# Altium footprint library QFP.PcbLib: 102 footprints (part 4 of 7)
Each footprint in its own frame and in the unit in brackets; x right, y up, seen from the top. Pads: shape width x height; smd on the part's side, far side on the other; paste and mask are expansions set on the pad; w line width, h text height; cw(c..) or ccw(c..) is an arc to the next point about the centre after c.
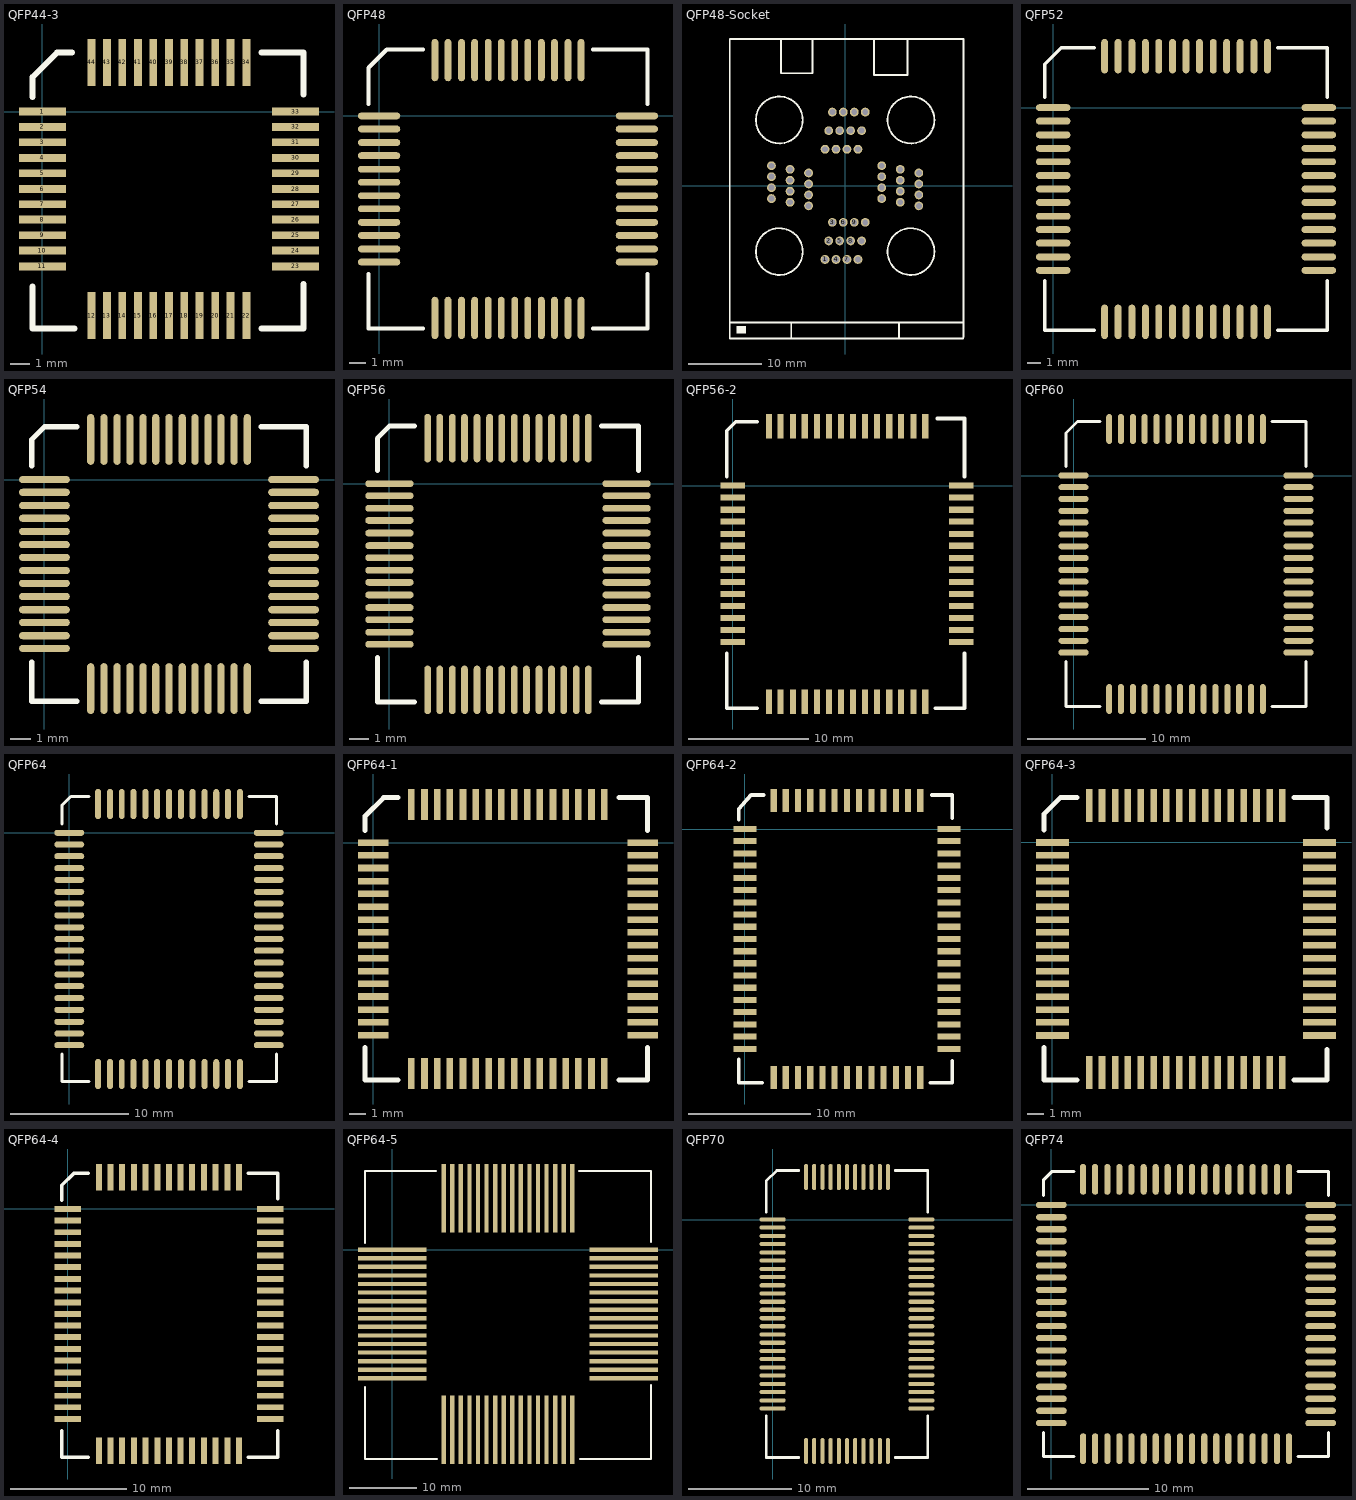
[diagram p3: the footprints below, top view; thin cyan lines are the x and y axes]

## QFP44-3 [mil]
pads (44):
  rect 95x16 smd: 1(0,0) 2(0,-31) 3(0,-62) 4(0,-94) 5(0,-125) 6(0,-157) 7(0,-188) 8(0,-219) 9(0,-251) 10(0,-282) 11(0,-314) 23(514,-314) 24(514,-282) 25(514,-251) 26(514,-219) 27(514,-188) 28(514,-157) 29(514,-125) 30(514,-94) 31(514,-62) 32(514,-31) 33(514,0)
  rect 16x95 smd: 12(100,-414) 13(131,-414) 14(162,-414) 15(194,-414) 16(225,-414) 17(257,-414) 18(288,-414) 19(319,-414) 20(351,-414) 21(382,-414) 22(414,-414) 34(414,100) 35(382,100) 36(351,100) 37(319,100) 38(288,100) 39(257,100) 40(225,100) 41(194,100) 42(162,100) 43(131,100) 44(100,100)
Top Overlay:
  lines w12: -20,-355 -20,-440 65,-440 ; -20,30 -20,70 30,120 60,120 ; 445,-440 530,-440 530,-350 ; 445,120 530,120 530,35

## QFP48 [mil]
pads (48):
  oval 100x16 smd: 1(0,0) 2(0,-31) 3(0,-63) 4(0,-94) 5(0,-126) 6(0,-157) 7(0,-189) 8(0,-220) 9(0,-252) 10(0,-283) 11(0,-315) 12(0,-346) 25(610,-346) 26(610,-315) 27(610,-283) 28(610,-252) 29(610,-220) 30(610,-189) 31(610,-157) 32(610,-126) 33(610,-94) 34(610,-63) 35(610,-31) 36(610,0)
  oval 16x100 smd: 13(132,-478) 14(163,-478) 15(195,-478) 16(226,-478) 17(258,-478) 18(289,-478) 19(321,-478) 20(352,-478) 21(384,-478) 22(415,-478) 23(447,-478) 24(478,-478) 37(478,132) 38(447,132) 39(415,132) 40(384,132) 41(352,132) 42(321,132) 43(289,132) 44(258,132) 45(226,132) 46(195,132) 47(163,132) 48(132,132)
Top Overlay:
  lines w10: -25,-374 -25,-503 104,-503 ; -25,28 -25,114 18,157 104,157 ; 506,-503 635,-503 635,-374 ; 506,157 635,157 635,28

## QFP48-Socket [mm]
pads (48):
  round 1.2 hole 0.8: 1(-2.75,-10.08) 2(-2.25,-7.54) 3(-1.75,-5) 4(-1.25,-10.08) 5(-0.75,-7.54) 6(-0.25,-5) 7(0.25,-10.08) 8(0.75,-7.54) 9(1.25,-5) 10(1.75,-10.08) 11(2.25,-7.54) 12(2.75,-5) 13(10.08,-2.75) 14(7.54,-2.25) 15(5,-1.75) 16(10.08,-1.25) 17(7.54,-0.75) 18(5,-0.25) 19(10.08,0.25) 20(7.54,0.75) 21(5,1.25) 22(10.08,1.75) 23(7.54,2.25) 24(5,2.75) 25(2.75,10.08) 26(2.25,7.54) 27(1.75,5) 28(1.25,10.08) 29(0.75,7.54) 30(0.25,5) 31(-0.25,10.08) 32(-0.75,7.54) 33(-1.25,5) 34(-1.75,10.08) 35(-2.25,7.54) 36(-2.75,5) 37(-10.08,2.75) 38(-7.54,2.25) 39(-5,1.75) 40(-10.08,1.25) 41(-7.54,0.75) 42(-5,0.25) 43(-10.08,-0.25) 44(-7.54,-0.75) 45(-5,-1.25) 46(-10.08,-1.75) 47(-7.54,-2.25) 48(-5,-2.75)
Top Overlay:
  circle w0.254: c9,9 r3.2
  circle w0.254: c9,-9 r3.2
  circle w0.254: c-9,-9 r3.2
  circle w0.254: c-9,9 r3.2
  rectangle: -14.859,-20.193 -13.589,-19.177
  lines w0.254: -15.775,20.075 -15.775,-20.875 16.125,-20.875 ; -15.679,-18.7 -6.65,-18.7 6.381,-18.7 16.169,-18.7 ; -15.675,20.075 16.225,20.075 ; -8.763,19.925 -8.763,15.4 -4.445,15.4 -4.445,20.075 ; -7.375,-20.725 -7.375,-18.7 ; 3.937,20 3.937,15.15 8.509,15.15 8.509,20.052 ; 7.366,-20.75 7.366,-18.669 ; 16.2,-20.725 16.2,20.075
Bottom Overlay:
  lines w0.254: -15.875,-20.955 -15.875,19.939 -15.748,20.066 16.383,20.066 16.383,-20.955 -15.621,-20.955

## QFP52 [mil]
pads (52):
  oval 100x20 smd: 1(0,0) 2(0,-39) 3(0,-79) 4(0,-118) 5(0,-157) 6(0,-197) 7(0,-236) 8(0,-275) 9(0,-315) 10(0,-354) 11(0,-393) 12(0,-433) 13(0,-472) 27(770,-472) 28(770,-433) 29(770,-393) 30(770,-354) 31(770,-315) 32(770,-275) 33(770,-236) 34(770,-197) 35(770,-157) 36(770,-118) 37(770,-79) 38(770,-39) 39(770,0)
  oval 20x100 smd: 14(149,-621) 15(188,-621) 16(228,-621) 17(267,-621) 18(306,-621) 19(346,-621) 20(385,-621) 21(424,-621) 22(464,-621) 23(503,-621) 24(542,-621) 25(582,-621) 26(621,-621) 40(621,149) 41(582,149) 42(542,149) 43(503,149) 44(464,149) 45(424,149) 46(385,149) 47(346,149) 48(306,149) 49(267,149) 50(228,149) 51(188,149) 52(149,149)
Top Overlay:
  lines w10: -25,-502 -25,-646 119,-646 ; -25,30 -25,126 23,174 119,174 ; 651,-646 795,-646 795,-502 ; 651,174 795,174 795,30

## QFP54 [mil]
pads (54):
  oval 100x14 smd: 1(0,0) 2(0,-25) 3(0,-51) 4(0,-76) 5(0,-102) 6(0,-128) 7(0,-153) 8(0,-179) 9(0,-204) 10(0,-230) 11(0,-256) 12(0,-281) 13(0,-307) 14(0,-332) 28(490,-332) 29(490,-307) 30(490,-281) 31(490,-256) 32(490,-230) 33(490,-204) 34(490,-179) 35(490,-153) 36(490,-128) 37(490,-102) 38(490,-76) 39(490,-51) 40(490,-25) 41(490,0)
  oval 14x100 smd: 15(91,-411) 16(117,-411) 17(143,-411) 18(168,-411) 19(194,-411) 20(219,-411) 21(245,-411) 22(271,-411) 23(296,-411) 24(322,-411) 25(347,-411) 26(373,-411) 27(399,-411) 42(399,79) 43(373,79) 44(347,79) 45(322,79) 46(296,79) 47(271,79) 48(245,79) 49(219,79) 50(194,79) 51(168,79) 52(143,79) 53(117,79) 54(91,79)
Top Overlay:
  lines w10: -25,-359 -25,-436 64,-436 ; -25,27 -25,79 0,104 64,104 ; 426,-436 515,-436 515,-359 ; 426,104 515,104 515,27

## QFP56 [mil]
pads (56):
  oval 100x14 smd: 1(0,0) 2(0,-25) 3(0,-51) 4(0,-76) 5(0,-102) 6(0,-128) 7(0,-153) 8(0,-179) 9(0,-204) 10(0,-230) 11(0,-256) 12(0,-281) 13(0,-307) 14(0,-332) 29(490,-332) 30(490,-307) 31(490,-281) 32(490,-256) 33(490,-230) 34(490,-204) 35(490,-179) 36(490,-153) 37(490,-128) 38(490,-102) 39(490,-76) 40(490,-51) 41(490,-25) 42(490,0)
  oval 14x100 smd: 15(79,-426) 16(104,-426) 17(130,-426) 18(155,-426) 19(181,-426) 20(207,-426) 21(232,-426) 22(258,-426) 23(283,-426) 24(309,-426) 25(335,-426) 26(360,-426) 27(386,-426) 28(411,-426) 43(411,94) 44(386,94) 45(360,94) 46(335,94) 47(309,94) 48(283,94) 49(258,94) 50(232,94) 51(207,94) 52(181,94) 53(155,94) 54(130,94) 55(104,94) 56(79,94)
Top Overlay:
  lines w10: -25,-359 -25,-451 52,-451 ; -25,27 -25,94 0,119 52,119 ; 438,-451 515,-451 515,-359 ; 438,119 515,119 515,27

## QFP56-2 [mil]
pads (56):
  rect 80x20 smd: 1(0,0) 2(0,-39) 3(0,-79) 4(0,-118) 5(0,-158) 6(0,-197) 7(0,-237) 8(0,-276) 9(0,-316) 10(0,-355) 11(0,-395) 12(0,-434) 13(0,-474) 14(0,-513) 29(749,-513) 30(749,-474) 31(749,-434) 32(749,-395) 33(749,-355) 34(749,-316) 35(749,-276) 36(749,-237) 37(749,-197) 38(749,-158) 39(749,-118) 40(749,-79) 41(749,-39) 42(749,0)
  rect 20x80 smd: 15(118,-709) 16(157,-709) 17(197,-709) 18(236,-709) 19(276,-709) 20(315,-709) 21(355,-709) 22(394,-709) 23(434,-709) 24(473,-709) 25(513,-709) 26(552,-709) 27(592,-709) 28(631,-709) 43(631,195) 44(592,195) 45(552,195) 46(513,195) 47(473,195) 48(434,195) 49(394,195) 50(355,195) 51(315,195) 52(276,195) 53(236,195) 54(197,195) 55(157,195) 56(118,195)
Top Overlay:
  lines w12: -20,-550 -20,-730 80,-730 ; -20,30 -20,180 10,210 80,210 ; 665,-730 760,-730 760,-550 ; 670,220 760,220 760,30

## QFP60 [mil]
pads (60):
  oval 100x20 smd: 1(0,0) 2(0,-39) 3(0,-78) 4(0,-118) 5(0,-157) 6(0,-197) 7(0,-236) 8(0,-275) 9(0,-315) 10(0,-354) 11(0,-393) 12(0,-433) 13(0,-472) 14(0,-512) 15(0,-551) 16(0,-590) 31(750,-590) 32(750,-551) 33(750,-512) 34(750,-472) 35(750,-433) 36(750,-393) 37(750,-354) 38(750,-315) 39(750,-275) 40(750,-236) 41(750,-197) 42(750,-157) 43(750,-118) 44(750,-78) 45(750,-39) 46(750,0)
  oval 20x100 smd: 17(119,-745) 18(158,-745) 19(198,-745) 20(237,-745) 21(277,-745) 22(316,-745) 23(355,-745) 24(395,-745) 25(434,-745) 26(473,-745) 27(513,-745) 28(552,-745) 29(592,-745) 30(631,-745) 47(631,155) 48(592,155) 49(552,155) 50(513,155) 51(473,155) 52(434,155) 53(395,155) 54(355,155) 55(316,155) 56(277,155) 57(237,155) 58(198,155) 59(158,155) 60(119,155)
Top Overlay:
  lines w10: -25,-620 -25,-770 89,-770 ; -25,30 -25,142 13,180 89,180 ; 661,-770 775,-770 775,-620 ; 661,180 775,180 775,30

## QFP64 [mil]
pads (64):
  oval 100x20 smd: 1(0,0) 2(0,-39) 3(0,-78) 4(0,-118) 5(0,-157) 6(0,-197) 7(0,-236) 8(0,-275) 9(0,-315) 10(0,-354) 11(0,-393) 12(0,-433) 13(0,-472) 14(0,-511) 15(0,-551) 16(0,-590) 17(0,-630) 18(0,-669) 19(0,-708) 33(665,-708) 34(665,-669) 35(665,-630) 36(665,-590) 37(665,-551) 38(665,-511) 39(665,-472) 40(665,-433) 41(665,-393) 42(665,-354) 43(665,-315) 44(665,-275) 45(665,-236) 46(665,-197) 47(665,-157) 48(665,-118) 49(665,-78) 50(665,-39) 51(665,0)
  oval 20x100 smd: 20(96,-804) 21(136,-804) 22(175,-804) 23(214,-804) 24(254,-804) 25(293,-804) 26(333,-804) 27(372,-804) 28(411,-804) 29(451,-804) 30(490,-804) 31(529,-804) 32(569,-804) 52(569,96) 53(529,96) 54(490,96) 55(451,96) 56(411,96) 57(372,96) 58(333,96) 59(293,96) 60(254,96) 61(214,96) 62(175,96) 63(136,96) 64(96,96)
Top Overlay:
  lines w10: -25,-738 -25,-829 66,-829 ; -25,30 -25,91 5,121 66,121 ; 599,-829 690,-829 690,-738 ; 599,121 690,121 690,30

## QFP64-1 [mil]
pads (64):
  rect 75x16 smd: 1(0,0) 2(0,-31) 3(0,-62) 4(0,-94) 5(0,-125) 6(0,-157) 7(0,-188) 8(0,-219) 9(0,-251) 10(0,-282) 11(0,-314) 12(0,-345) 13(0,-376) 14(0,-408) 15(0,-439) 16(0,-471) 33(658,-471) 34(658,-439) 35(658,-408) 36(658,-376) 37(658,-345) 38(658,-314) 39(658,-282) 40(658,-251) 41(658,-219) 42(658,-188) 43(658,-157) 44(658,-125) 45(658,-94) 46(658,-62) 47(658,-31) 48(658,0)
  rect 16x75 smd: 17(93,-564) 18(125,-564) 19(156,-564) 20(187,-564) 21(219,-564) 22(250,-564) 23(282,-564) 24(313,-564) 25(344,-564) 26(376,-564) 27(407,-564) 28(439,-564) 29(470,-564) 30(501,-564) 31(533,-564) 32(564,-564) 49(564,93) 50(533,93) 51(501,93) 52(470,93) 53(439,93) 54(407,93) 55(376,93) 56(344,93) 57(313,93) 58(282,93) 59(250,93) 60(219,93) 61(187,93) 62(156,93) 63(125,93) 64(93,93)
Top Overlay:
  lines w12: -20,-500 -20,-580 60,-580 ; -20,30 -20,65 25,110 60,110 ; 600,-580 670,-580 670,-500 ; 600,110 670,110 670,30

## QFP64-2 [mil]
pads (64):
  rect 75x20 smd: 1(0,0) 2(0,-39) 3(0,-79) 4(0,-118) 5(0,-158) 6(0,-197) 7(0,-237) 8(0,-276) 9(0,-316) 10(0,-355) 11(0,-395) 12(0,-434) 13(0,-474) 14(0,-513) 15(0,-553) 16(0,-592) 17(0,-632) 18(0,-671) 19(0,-711) 33(660,-711) 34(660,-671) 35(660,-632) 36(660,-592) 37(660,-553) 38(660,-513) 39(660,-474) 40(660,-434) 41(660,-395) 42(660,-355) 43(660,-316) 44(660,-276) 45(660,-237) 46(660,-197) 47(660,-158) 48(660,-118) 49(660,-79) 50(660,-39) 51(660,0)
  rect 20x75 smd: 20(93,-803) 21(132,-803) 22(172,-803) 23(211,-803) 24(251,-803) 25(290,-803) 26(330,-803) 27(369,-803) 28(409,-803) 29(448,-803) 30(488,-803) 31(527,-803) 32(567,-803) 52(567,92) 53(527,92) 54(488,92) 55(448,92) 56(409,92) 57(369,92) 58(330,92) 59(290,92) 60(251,92) 61(211,92) 62(172,92) 63(132,92) 64(93,92)
Top Overlay:
  lines w12: -20,-745 -20,-820 55,-820 ; -20,30 -20,65 20,110 60,110 ; 600,-820 670,-820 670,-750 ; 605,110 670,110 670,35

## QFP64-3 [mil]
pads (64):
  rect 80x16 smd: 1(0,0) 2(0,-31) 3(0,-62) 4(0,-94) 5(0,-125) 6(0,-157) 7(0,-188) 8(0,-219) 9(0,-251) 10(0,-282) 11(0,-314) 12(0,-345) 13(0,-376) 14(0,-408) 15(0,-439) 16(0,-471) 33(652,-471) 34(652,-439) 35(652,-408) 36(652,-376) 37(652,-345) 38(652,-314) 39(652,-282) 40(652,-251) 41(652,-219) 42(652,-188) 43(652,-157) 44(652,-125) 45(652,-94) 46(652,-62) 47(652,-31) 48(652,0)
  rect 16x80 smd: 17(90,-561) 18(121,-561) 19(153,-561) 20(184,-561) 21(216,-561) 22(247,-561) 23(278,-561) 24(310,-561) 25(341,-561) 26(373,-561) 27(404,-561) 28(435,-561) 29(467,-561) 30(498,-561) 31(530,-561) 32(561,-561) 49(561,90) 50(530,90) 51(498,90) 52(467,90) 53(435,90) 54(404,90) 55(373,90) 56(341,90) 57(310,90) 58(278,90) 59(247,90) 60(216,90) 61(184,90) 62(153,90) 63(121,90) 64(90,90)
Top Overlay:
  lines w12: -20,-500 -20,-580 60,-580 ; -20,30 -20,70 20,110 60,110 ; 590,-580 670,-580 670,-505 ; 590,110 670,110 670,35

## QFP64-4 [mil]
pads (64):
  rect 90x20 smd: 1(0,0) 2(0,-39) 3(0,-79) 4(0,-118) 5(0,-158) 6(0,-197) 7(0,-237) 8(0,-276) 9(0,-316) 10(0,-355) 11(0,-395) 12(0,-434) 13(0,-474) 14(0,-513) 15(0,-553) 16(0,-592) 17(0,-632) 18(0,-671) 19(0,-711) 33(685,-711) 34(685,-671) 35(685,-632) 36(685,-592) 37(685,-553) 38(685,-513) 39(685,-474) 40(685,-434) 41(685,-395) 42(685,-355) 43(685,-316) 44(685,-276) 45(685,-237) 46(685,-197) 47(685,-158) 48(685,-118) 49(685,-79) 50(685,-39) 51(685,0)
  rect 20x90 smd: 20(105,-818) 21(145,-818) 22(184,-818) 23(224,-818) 24(263,-818) 25(303,-818) 26(342,-818) 27(382,-818) 28(421,-818) 29(461,-818) 30(500,-818) 31(540,-818) 32(579,-818) 52(579,107) 53(540,107) 54(500,107) 55(461,107) 56(421,107) 57(382,107) 58(342,107) 59(303,107) 60(263,107) 61(224,107) 62(184,107) 63(145,107) 64(105,107)
Top Overlay:
  lines w12: -20,-750 -20,-840 70,-840 ; -20,30 -20,80 20,120 70,120 ; 610,-840 710,-840 710,-750 ; 610,120 710,120 710,35

## QFP64-5 [mm]
pads (64):
  rect 10.16x0.635 smd: 1(0,0) 2(0,-1.27) 3(0,-2.54) 4(0,-3.81) 5(0,-5.08) 6(0,-6.35) 7(0,-7.62) 8(0,-8.89) 9(0,-10.16) 10(0,-11.43) 11(0,-12.7) 12(0,-13.97) 13(0,-15.24) 14(0,-16.51) 15(0,-17.78) 16(0,-19.05) 33(34.29,-19.05) 34(34.29,-17.78) 35(34.29,-16.51) 36(34.29,-15.24) 37(34.29,-13.97) 38(34.29,-12.7) 39(34.29,-11.43) 40(34.29,-10.16) 41(34.29,-8.89) 42(34.29,-7.62) 43(34.29,-6.35) 44(34.29,-5.08) 45(34.29,-3.81) 46(34.29,-2.54) 47(34.29,-1.27) 48(34.29,0)
  rect 0.635x10.16 smd: 17(7.62,-26.67) 18(8.89,-26.67) 19(10.16,-26.67) 20(11.43,-26.67) 21(12.7,-26.67) 22(13.97,-26.67) 23(15.24,-26.67) 24(16.51,-26.67) 25(17.78,-26.67) 26(19.05,-26.67) 27(20.32,-26.67) 28(21.59,-26.67) 29(22.86,-26.67) 30(24.13,-26.67) 31(25.4,-26.67) 32(26.67,-26.67) 49(26.67,7.62) 50(25.4,7.62) 51(24.13,7.62) 52(22.86,7.62) 53(21.59,7.62) 54(20.32,7.62) 55(19.05,7.62) 56(17.78,7.62) 57(16.51,7.62) 58(15.24,7.62) 59(13.97,7.62) 60(12.7,7.62) 61(11.43,7.62) 62(10.16,7.62) 63(8.89,7.62) 64(7.62,7.62)
Top Overlay:
  lines w0.305: -4.064,-20.32 -4.064,-30.988 6.604,-30.988 ; -4.064,1.016 -4.064,11.684 6.477,11.684 ; 27.686,11.684 38.354,11.684 38.354,1.143 ; 27.813,-30.988 38.354,-30.988 38.354,-20.066

## QFP70 [mil]
pads (70):
  oval 100x16 smd: 1(0,0) 2(0,-31) 3(0,-63) 4(0,-94) 5(0,-126) 6(0,-157) 7(0,-189) 8(0,-220) 9(0,-252) 10(0,-283) 11(0,-315) 12(0,-346) 13(0,-378) 14(0,-409) 15(0,-441) 16(0,-472) 17(0,-504) 18(0,-535) 19(0,-567) 20(0,-598) 21(0,-630) 22(0,-661) 23(0,-693) 24(0,-724) 36(570,-724) 37(570,-693) 38(570,-661) 39(570,-630) 40(570,-598) 41(570,-567) 42(570,-535) 43(570,-504) 44(570,-472) 45(570,-441) 46(570,-409) 47(570,-378) 48(570,-346) 49(570,-315) 50(570,-283) 51(570,-252) 52(570,-220) 53(570,-189) 54(570,-157) 55(570,-126) 56(570,-94) 57(570,-63) 58(570,-31) 59(570,0)
  oval 16x100 smd: 25(128,-887) 26(159,-887) 27(191,-887) 28(222,-887) 29(254,-887) 30(285,-887) 31(316,-887) 32(348,-887) 33(379,-887) 34(411,-887) 35(442,-887) 60(442,163) 61(411,163) 62(379,163) 63(348,163) 64(316,163) 65(285,163) 66(254,163) 67(222,163) 68(191,163) 69(159,163) 70(128,163)
Top Overlay:
  lines w10: -25,-752 -25,-912 100,-912 ; -25,28 -25,147 16,188 100,188 ; 470,-912 595,-912 595,-752 ; 470,188 595,188 595,28

## QFP74 [mil]
pads (74):
  oval 100x20 smd: 1(0,0) 2(0,-40) 3(0,-79) 4(0,-118) 5(0,-158) 6(0,-197) 7(0,-236) 8(0,-276) 9(0,-315) 10(0,-355) 11(0,-394) 12(0,-433) 13(0,-473) 14(0,-512) 15(0,-551) 16(0,-591) 17(0,-630) 18(0,-669) 19(0,-709) 38(875,-709) 39(875,-669) 40(875,-630) 41(875,-591) 42(875,-551) 43(875,-512) 44(875,-473) 45(875,-433) 46(875,-394) 47(875,-355) 48(875,-315) 49(875,-276) 50(875,-236) 51(875,-197) 52(875,-158) 53(875,-118) 54(875,-79) 55(875,-40) 56(875,0)
  oval 20x100 smd: 20(103,-792) 21(142,-792) 22(182,-792) 23(221,-792) 24(260,-792) 25(300,-792) 26(339,-792) 27(378,-792) 28(418,-792) 29(457,-792) 30(497,-792) 31(536,-792) 32(575,-792) 33(615,-792) 34(654,-792) 35(693,-792) 36(733,-792) 37(772,-792) 57(772,83) 58(733,83) 59(693,83) 60(654,83) 61(615,83) 62(575,83) 63(536,83) 64(497,83) 65(457,83) 66(418,83) 67(378,83) 68(339,83) 69(300,83) 70(260,83) 71(221,83) 72(182,83) 73(142,83) 74(103,83)
Top Overlay:
  lines w10: -25,-739 -25,-817 73,-817 ; -25,30 -25,82 1,108 73,108 ; 802,-817 900,-817 900,-739 ; 802,108 900,108 900,30